# EAGLE library part AP1609 (library Custom_old)
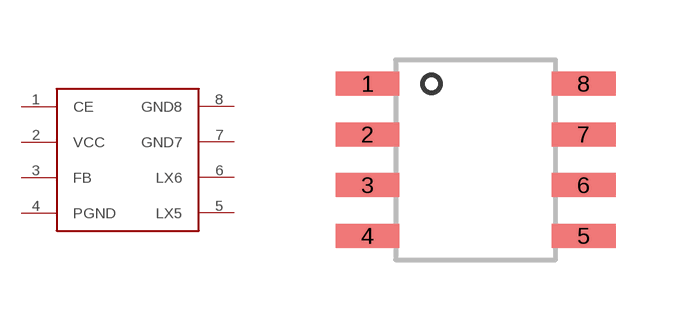
[diagram p2: symbol with the pads of SOIC8; footprint SOIC8]

Designator prefix -

## AP1609  [SOIC8]
1  CE
2  VCC
3  FB
4  PGND
5  LX5
6  LX6
7  GND7
8  GND8

## Footprint SOIC8 (pad centres in mm)
smd 1.6 x 0.6: 1 -2.7,1.905; 2 -2.7,0.635; 3 -2.7,-0.635; 4 -2.7,-1.905; 5 2.7,-1.905; 6 2.7,-0.635; 7 2.7,0.635; 8 2.7,1.905